# Altium schematic symbol library USB_Host.SchLib: 4 symbols
Pins are listed as number, name and electrical type; pins without a type are passive.

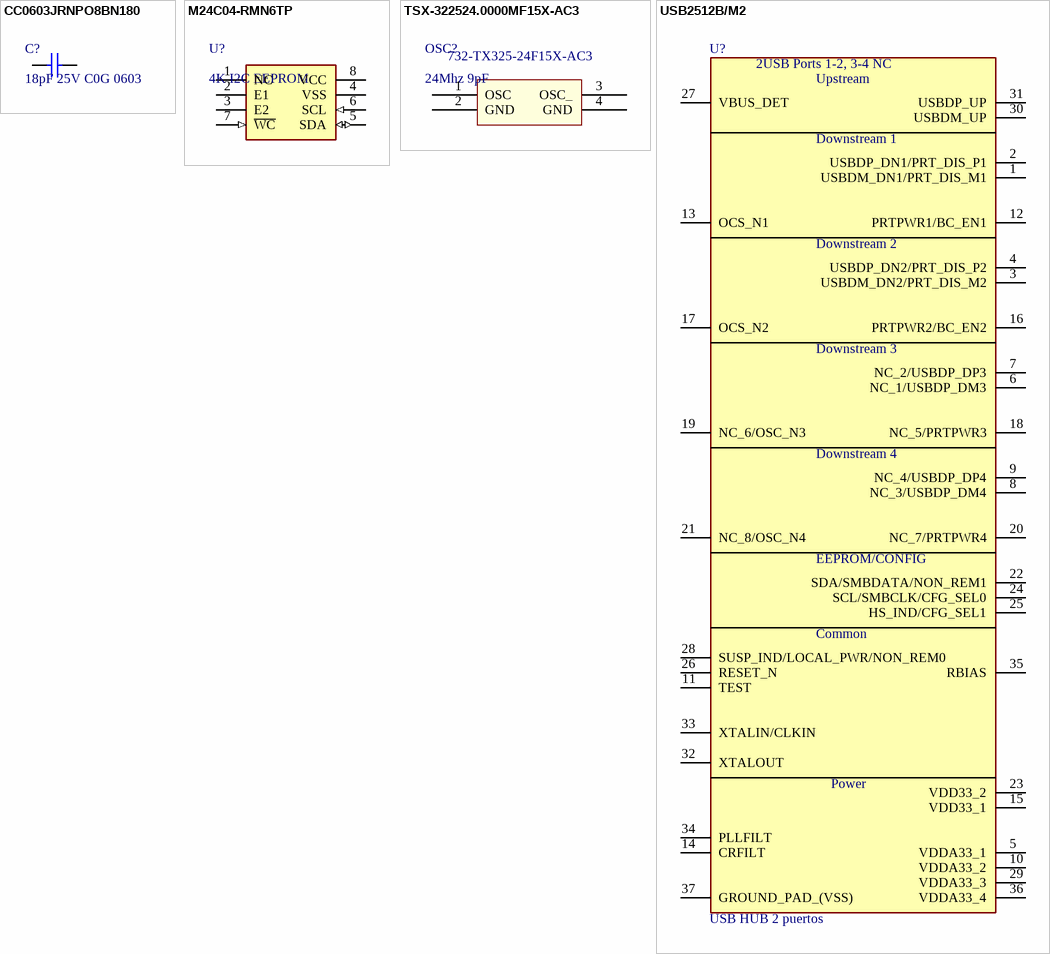
[diagram p0: symbols CC0603JRNPO8BN180 to USB2512B/M2]

## CC0603JRNPO8BN180
designator C?, comment 18pF 25V C0G 0603
Cap Ceramic 18pF 25V C0G 5% SMD 0603 125C Paper T/R; Manufacturer 1: Yageo; Manufacturer Part Number 1: CC0603JRNPO8BN180; Supplier 1: Mouser; Stock 1: 521; Pricing 1: 1=0.10000, 10=0.04200, 50=0.04200, 100=0.01900, 1000=0.01500, 10000=0.01000 (USD); RoHS: Yes; Mount: Surface Mount; Case/Package: 0603; Weight: 7.1E-05oz; Case Code (Imperial): 0603; Case Code (Metric): 1608; Min Operating Temperature: -55°C; Max Operating Temperature: 125°C; Capacitance: 18pF; Voltage Rating (DC): 25V; Tolerance: 5%; Packaging: Tape and Reel; Dielectric: C0G; Voltage Rating: 25V; Termination: SMD/SMT; Composition: Ceramic; Length: 0.063inch; Width: 0.031inch; Thickness: 0.035inch; ComponentLink1URL: https://datasheet.ciiva.com/13263/upy-gp-np0-16v-to-50v-8-3714-13263805.pdf?src-supplier=Mouser; ComponentLink1Description: https://datasheet.ciiva.com/13263/upy-gp-np0-16v-to-50v-8-3714-13263805.pdf?src-supplier=Mouser; Supplier Part Number 1: 603-CC603JRNPO8BN180
footprint C 0603/1608
pins: 1, 2

## M24C04-RMN6TP
designator U?, comment 4K I2C EEPROM
IC EEPROM 4K I2C 400KHZ 8SO; Manufacturer: STMicroelectronics; Manufacturer Part Number: M24C04-RMN6TP; Access Time: 900ns; Density: 4Kb; Max Supply Voltage: 5.5V; Min Supply Voltage: 1.8V; Nominal Supply Current: 800uA; Operating Supply Voltage: 5V; Supplier 1: Mouser; RoHS: Yes; Stock 1: 14893; Pricing 1: 1 = 0,17000, 10 = 0,14900, 50 = 0,14900, 100 = 0,13100, 1000 = 0,12500, 10000 = 0,10000 (USD); Mount: Surface Mount; Case/Package: SOIC; Number of Pins: 8; Contact Plating: Gold; Min Operating Temperature: -40°C; Max Operating Temperature: 85°C; Interface: I2C; Max Frequency: 400kHz; Packaging: Tape and Reel; Frequency: 400kHz; Package Quantity: 1; Memory Type: EEPROM; Memory Size: 4Kb; Length: 4.9mm; Height: 1.25mm; Width: 3.9mm; Radiation Hardening: No; Lead Free: Lead Free; ComponentLink1URL: https://datasheet.ciiva.com/15123/getdatasheetpartid-297195-15123332.pdf?src-supplier=Verical; ComponentLink1Description: https://datasheet.ciiva.com/15123/getdatasheetpartid-297195-15123332.pdf?src-supplier=Verical; ComponentLink2URL: https://datasheet.ciiva.com/1908/dm00071277-1908016.pdf?src-supplier=Digi-Key; ComponentLink2Description: https://datasheet.ciiva.com/1908/dm00071277-1908016.pdf?src-supplier=Digi-Key; ComponentLink3URL: https://datasheet.ciiva.com/1908/dm00071277-1908017.pdf?src-supplier=Digi-Key; ComponentLink3Description: https://datasheet.ciiva.com/1908/dm00071277-1908017.pdf?src-supplier=Digi-Key; ComponentLink4URL: https://datasheet.ciiva.com/16393/dm00071277-16393643.pdf?src-supplier=Future+Electronics; ComponentLink4Description: https://datasheet.ciiva.com/16393/dm00071277-16393643.pdf?src-supplier=Future+Electronics; ComponentLink5URL: https://datasheet.ciiva.com/1908/dm00071277-1908015.pdf?src-supplier=Digi-Key; ComponentLink5Description: https://datasheet.ciiva.com/1908/dm00071277-1908015.pdf?src-supplier=Digi-Key; ComponentLink6URL: https://datasheet.ciiva.com/16623/dm00071277-16623023.pdf?src-supplier=Avnet+Europe; ComponentLink6Description: https://datasheet.ciiva.com/16623/dm00071277-16623023.pdf?src-supplier=Avnet+Europe; Supplier Part Number 1: 511-M24C04-RMN6TP
footprint SOIC127P600X175-8N
pins: 1 NC, 2 E1, 3 E2, 4 VSS (power), 5 SDA (io), 6 SCL (in), 7 ~{WC} (in), 8 VCC (power)

## TSX-322524.0000MF15X-AC3
designator OSC?, comment 24Mhz 9pF  Supplier Part Number 1: 732-TX325-24F15X-AC3
CRYSTAL 24.0000MHZ 9PF SMD; Manufacturer 1: Epson; Manufacturer Part Number 1: TSX-322524.0000MF15X-AC3; Frequency Tolerance: 10ppm; ESR (Equivalent Series Resistance): 40R; Frequency Stability: 15ppm; Supplier 1: Mouser; Stock 1: 68237; Pricing 1: 1=0.34000, 10=0.27500, 50=0.24800, 100=0.22000, 500=0.19300, 1000=0.17600, 2000=0.16500, 5000=0.16000, 10000=0.15400 (USD); RoHS: Yes; Mount: Surface Mount; Case/Package: SMD/SMT; Weight: 0.000564oz; Min Operating Temperature: -40°C; Max Operating Temperature: 85°C; Package Quantity: 250; Frequency: 24MHz; Load Capacitance: 9pF; Packaging: Tape and Reel; Tolerance: 10ppm; Termination: SMD/SMT; Length: 0.126inch; Height: 0.024inch; Width: 0.098inch; Lead Free: Lead Free; ComponentLink1URL: https://support.epson.biz/td/api/doc_check.php?dl=brief_TSX-3225&lang=en&src-supplier=Digi-Key; ComponentLink1Description: https://support.epson.biz/td/api/doc_check.php?dl=brief_TSX-3225&lang=en&src-supplier=Digi-Key; ComponentLink2URL: http://www5.epsondevice.com/en/products/crystal_unit/tsx3225.html#?src-supplier=Mouser; ComponentLink2Description: http://www5.epsondevice.com/en/products/crystal_unit/tsx3225.html#?src-supplier=Mouser; ComponentLink3URL: https://www5.epsondevice.com/en/information/support/pdf/june_2018_psc_masterbook.pdf?src-supplier=Digi-Key; ComponentLink3Description: https://www5.epsondevice.com/en/information/support/pdf/june_2018_psc_masterbook.pdf?src-supplier=Digi-Key
footprint 3.2 mm x 2.5 mm(SMD 3225 (SMD CRYSTAL 4P)
pins: 1 OSC, 2 GND, 3 OSC_, 4 GND

## USB2512B/M2
designator U?, comment USB HUB 2 puertos
IC HUB CTLR 2PORT USB 2.0 HS 36S; Manufacturer: Microchip; Manufacturer Part Number: USB2512B/M2; Operating Supply Current: 60mA; Supplier 1: Mouser; RoHS: Yes; Stock 1: 2581; Pricing 1: 1 = 1,68000, 10 = 1,66000, 50 = 1,40000, 100 = 1,35000, 1000 = 1,35000, 10000 = 1,35000 (USD); Number of Pins: 36; Min Operating Temperature: 0°C; Max Operating Temperature: 85°C; Packaging: Tray; Interface: USB; ComponentLink1URL: http://www.farnell.com/datasheets/2032129.pdf?src-supplier=Farnell; ComponentLink1Description: http://www.farnell.com/datasheets/2032129.pdf?src-supplier=Farnell; ComponentLink2URL: http://ww1.microchip.com/downloads/en/DeviceDoc/00001692B.pdf?src-supplier=Avnet; ComponentLink2Description: http://ww1.microchip.com/downloads/en/DeviceDoc/00001692B.pdf?src-supplier=Avnet; ComponentLink3URL: http://www.microchip.com/mymicrochip/filehandler.aspx?ddocname=en562310&src-supplier=Digi-Key; ComponentLink3Description: http://www.microchip.com/mymicrochip/filehandler.aspx?ddocname=en562310&src-supplier=Digi-Key; Supplier Part Number 1: 579-USB2512B/M2
footprint QFN50P600X600X100-37N-D
pins: 1 USBDM_DN1/PRT_DIS_M1, 2 USBDP_DN1/PRT_DIS_P1, 3 USBDM_DN2/PRT_DIS_M2, 4 USBDP_DN2/PRT_DIS_P2, 5 VDDA33_1, 6 NC_1/USBDP_DM3, 7 NC_2/USBDP_DP3, 8 NC_3/USBDP_DM4, 9 NC_4/USBDP_DP4, 10 VDDA33_2, 11 TEST, 12 PRTPWR1/BC_EN1, 13 OCS_N1, 14 CRFILT, 15 VDD33_1, 16 PRTPWR2/BC_EN2, 17 OCS_N2, 18 NC_5/PRTPWR3, 19 NC_6/OSC_N3, 20 NC_7/PRTPWR4, 21 NC_8/OSC_N4, 22 SDA/SMBDATA/NON_REM1, 23 VDD33_2, 24 SCL/SMBCLK/CFG_SEL0, 25 HS_IND/CFG_SEL1, 26 RESET_N, 27 VBUS_DET, 28 SUSP_IND/LOCAL_PWR/NON_REM0, 29 VDDA33_3, 30 USBDM_UP, 31 USBDP_UP, 32 XTALOUT, 33 XTALIN/CLKIN, 34 PLLFILT, 35 RBIAS, 36 VDDA33_4, 37 GROUND_PAD_(VSS)
text: 2USB Ports 1-2, 3-4 NC; Upstream; Downstream 1; Downstream 2; Downstream 3; Downstream 4; EEPROM/CONFIG; Common; Power